# Altium schematic symbol library ZVN2110A.SchLib: 1 symbol
Pins are listed as number, name and electrical type; pins without a type are passive.

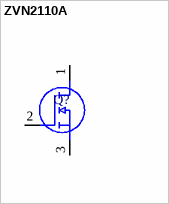
[diagram p0: symbol ZVN2110A]

## ZVN2110A
designator Q?
Diodes Inc ZVN2110A N-channel MOSFET Transistor, 0.32 A, 100 V, 3-Pin E-Line; Manufacturer_Name: Diodes Inc.; Manufacturer_Part_Number: ZVN2110A; Mouser Part Number: 522-ZVN2110A; Mouser Price/Stock: https://www.mouser.co.uk/ProductDetail/Diodes-Incorporated/ZVN2110A?qs=GBLSl2Akirt3HiEZrqH%252Bcw%3D%3D; Arrow Part Number: ZVN2110A; Arrow Price/Stock: https://www.arrow.com/en/products/zvn2110a/diodes-incorporated?region=nac; Mouser Testing Part Number: *; Mouser Testing Price/Stock: *; Datasheet Link: http://uk.rs-online.com/web/p/products/1574574
footprint E-LINE
pins: 1 D, 2 G, 3 S